# Altium integrated library National Semiconductor OtherParts.IntLib: 205 symbols (part 2 of 7)
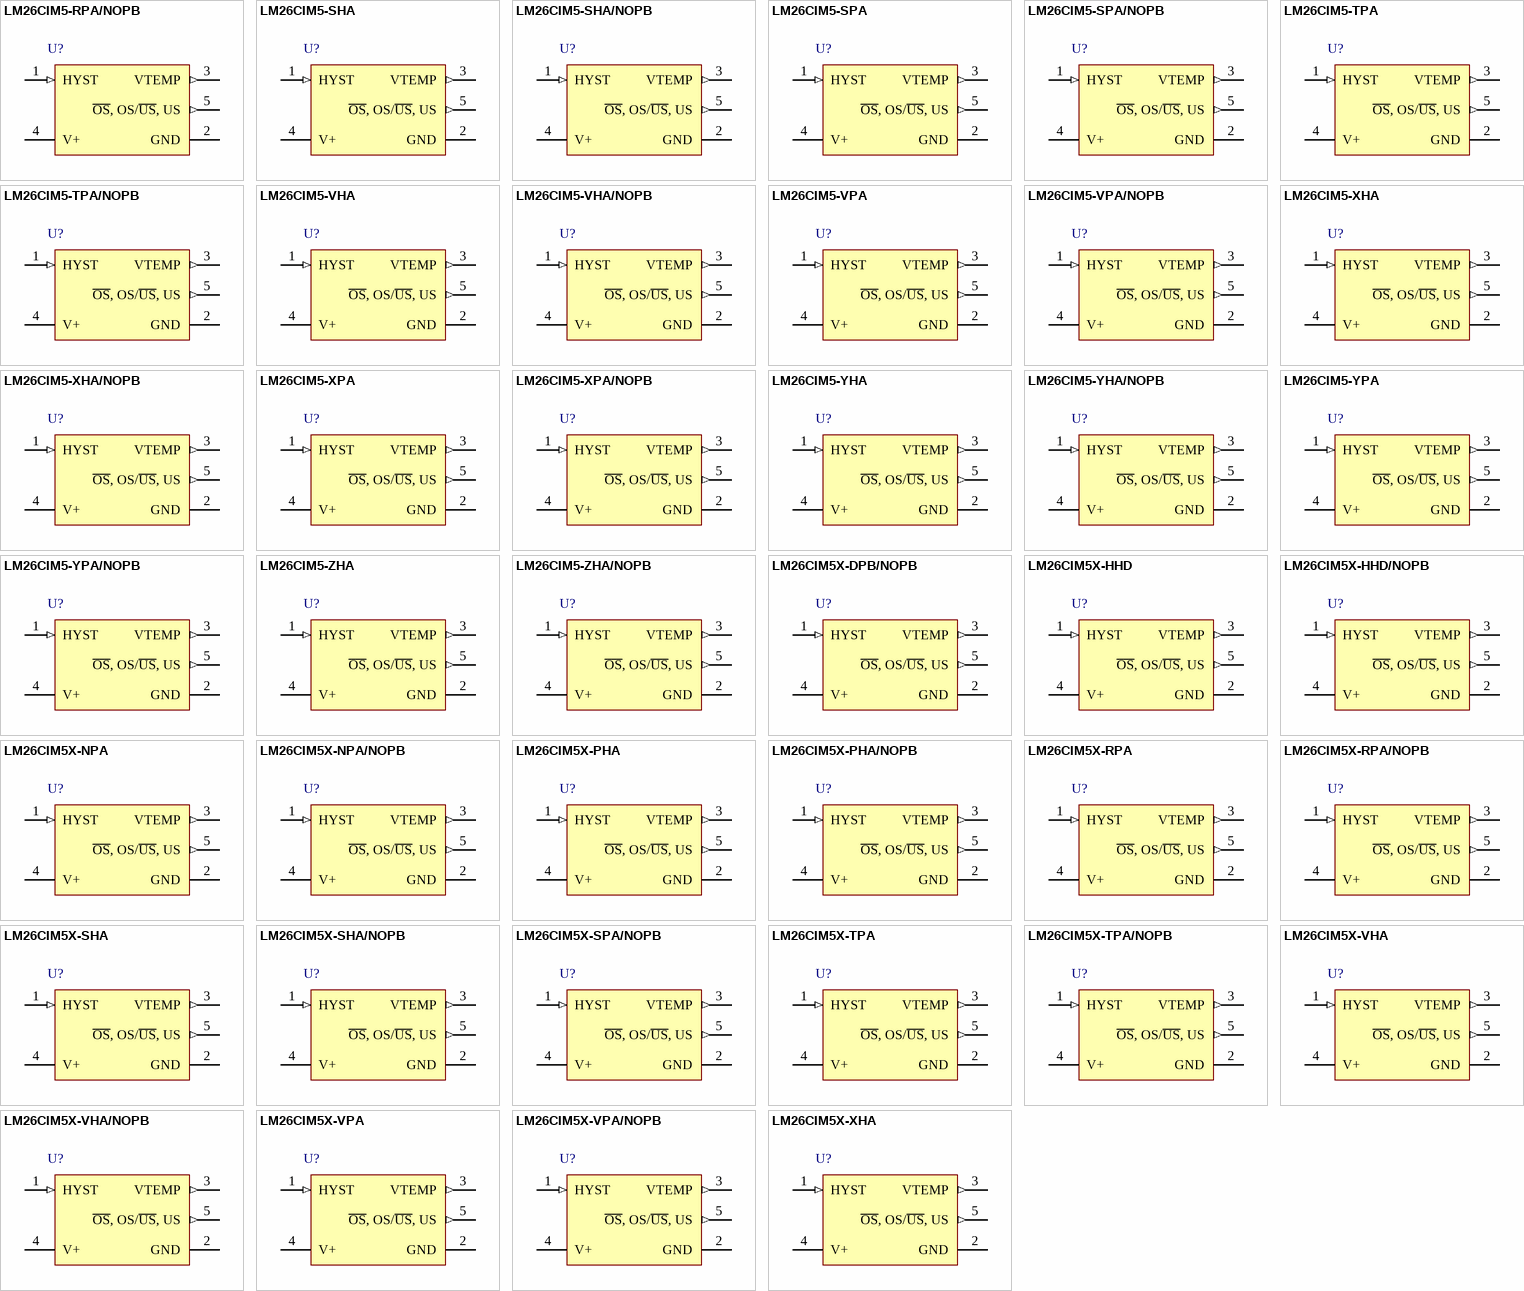
[diagram p13: symbols LM26CIM5-RPA/NOPB to LM26CIM5X-XHA]

## LM26CIM5X-DPB/NOPB
designator U?
±3°C Accurate, Factory Preset Thermostat, 5-pin SOT-23, Pb-Free; PartNumber: LM26CIM5X-DPB/NOPB; Manufacturer: National Semiconductor; PackageTopMarking: TDPB*XTT; PowerWise: Y; CompType: OtherParts; DatasheetVersion: Sep-2009; PackageVersion: revD, Aug-2008; PackageReference: MF05A; PackageDescription: Molded SOT-23, .115 x .063 x .040 in Body, 5 Lead, .0375 in Pitch; RoHS: Y; PinCount: 5; High-Reliability: Y; ComponentLink1Description: Manufacturer URL; ComponentLink1URL: http://www.national.com/; ComponentLink2Description: LM26 Datasheet; ComponentLink2URL: http://www.national.com/ds/LM/LM26.pdf; ComponentLink3Description: LM26 Web Page; ComponentLink3URL: http://www.national.com/pf/LM/LM26.html; ComponentLink4Description: MF05A Package Page; ComponentLink4URL: http://www.national.com/packaging/folders/mf05a.html
footprint MF05A_N (SOT23, 5-Leads, Body 2.9x1.6mm, Pitch 0.95mm, Lead Span 2.8mm, IPC Medium Density)
footprint MF05A_L (SOT23, 5-Leads, Body 2.9x1.6mm, Pitch 0.95mm, Lead Span 2.8mm, IPC High Density)
footprint MF05A_M (SOT23, 5-Leads, Body 2.9x1.6mm, Pitch 0.95mm, Lead Span 2.8mm, IPC Low Density)
pins: 1 HYST (in), 2 GND (power), 3 VTEMP (out), 4 V+ (power), 5 ~{OS}, OS/~{US}, US (out)

## LM26CIM5X-HHD
designator U?
±3°C Accurate, Factory Preset Thermostat, 5-pin SOT-23; PartNumber: LM26CIM5X-HHD; Manufacturer: National Semiconductor; PackageTopMarking: THHD*XTT; PowerWise: Y; CompType: OtherParts; DatasheetVersion: Sep-2009; PackageVersion: revD, Aug-2008; PackageReference: MF05A; PackageDescription: Molded SOT-23, .115 x .063 x .040 in Body, 5 Lead, .0375 in Pitch; RoHS: N; PinCount: 5; High-Reliability: Y; ComponentLink1Description: Manufacturer URL; ComponentLink1URL: http://www.national.com/; ComponentLink2Description: LM26 Datasheet; ComponentLink2URL: http://www.national.com/ds/LM/LM26.pdf; ComponentLink3Description: LM26 Web Page; ComponentLink3URL: http://www.national.com/pf/LM/LM26.html; ComponentLink4Description: MF05A Package Page; ComponentLink4URL: http://www.national.com/packaging/folders/mf05a.html
footprint MF05A_N (SOT23, 5-Leads, Body 2.9x1.6mm, Pitch 0.95mm, Lead Span 2.8mm, IPC Medium Density)
footprint MF05A_L (SOT23, 5-Leads, Body 2.9x1.6mm, Pitch 0.95mm, Lead Span 2.8mm, IPC High Density)
footprint MF05A_M (SOT23, 5-Leads, Body 2.9x1.6mm, Pitch 0.95mm, Lead Span 2.8mm, IPC Low Density)
pins: 1 HYST (in), 2 GND (power), 3 VTEMP (out), 4 V+ (power), 5 ~{OS}, OS/~{US}, US (out)

## LM26CIM5X-HHD/NOPB
designator U?
±3°C Accurate, Factory Preset Thermostat, 5-pin SOT-23, Pb-Free; PartNumber: LM26CIM5X-HHD/NOPB; Manufacturer: National Semiconductor; PackageTopMarking: THHD*XTT; PowerWise: Y; CompType: OtherParts; DatasheetVersion: Sep-2009; PackageVersion: revD, Aug-2008; PackageReference: MF05A; PackageDescription: Molded SOT-23, .115 x .063 x .040 in Body, 5 Lead, .0375 in Pitch; RoHS: Y; PinCount: 5; High-Reliability: Y; ComponentLink1Description: Manufacturer URL; ComponentLink1URL: http://www.national.com/; ComponentLink2Description: LM26 Datasheet; ComponentLink2URL: http://www.national.com/ds/LM/LM26.pdf; ComponentLink3Description: LM26 Web Page; ComponentLink3URL: http://www.national.com/pf/LM/LM26.html; ComponentLink4Description: MF05A Package Page; ComponentLink4URL: http://www.national.com/packaging/folders/mf05a.html
footprint MF05A_N (SOT23, 5-Leads, Body 2.9x1.6mm, Pitch 0.95mm, Lead Span 2.8mm, IPC Medium Density)
footprint MF05A_L (SOT23, 5-Leads, Body 2.9x1.6mm, Pitch 0.95mm, Lead Span 2.8mm, IPC High Density)
footprint MF05A_M (SOT23, 5-Leads, Body 2.9x1.6mm, Pitch 0.95mm, Lead Span 2.8mm, IPC Low Density)
pins: 1 HYST (in), 2 GND (power), 3 VTEMP (out), 4 V+ (power), 5 ~{OS}, OS/~{US}, US (out)

## LM26CIM5X-NPA
designator U?
±3°C Accurate, Factory Preset Thermostat, 5-pin SOT-23; PartNumber: LM26CIM5X-NPA; Manufacturer: National Semiconductor; PackageTopMarking: TNPA*XTT; PowerWise: Y; CompType: OtherParts; DatasheetVersion: Sep-2009; PackageVersion: revD, Aug-2008; PackageReference: MF05A; PackageDescription: Molded SOT-23, .115 x .063 x .040 in Body, 5 Lead, .0375 in Pitch; RoHS: N; PinCount: 5; High-Reliability: Y; ComponentLink1Description: Manufacturer URL; ComponentLink1URL: http://www.national.com/; ComponentLink2Description: LM26 Datasheet; ComponentLink2URL: http://www.national.com/ds/LM/LM26.pdf; ComponentLink3Description: LM26 Web Page; ComponentLink3URL: http://www.national.com/pf/LM/LM26.html; ComponentLink4Description: MF05A Package Page; ComponentLink4URL: http://www.national.com/packaging/folders/mf05a.html
footprint MF05A_N (SOT23, 5-Leads, Body 2.9x1.6mm, Pitch 0.95mm, Lead Span 2.8mm, IPC Medium Density)
footprint MF05A_L (SOT23, 5-Leads, Body 2.9x1.6mm, Pitch 0.95mm, Lead Span 2.8mm, IPC High Density)
footprint MF05A_M (SOT23, 5-Leads, Body 2.9x1.6mm, Pitch 0.95mm, Lead Span 2.8mm, IPC Low Density)
pins: 1 HYST (in), 2 GND (power), 3 VTEMP (out), 4 V+ (power), 5 ~{OS}, OS/~{US}, US (out)

## LM26CIM5X-NPA/NOPB
designator U?
±3°C Accurate, Factory Preset Thermostat, 5-pin SOT-23, Pb-Free; PartNumber: LM26CIM5X-NPA/NOPB; Manufacturer: National Semiconductor; PackageTopMarking: TNPA*XTT; PowerWise: Y; CompType: OtherParts; DatasheetVersion: Sep-2009; PackageVersion: revD, Aug-2008; PackageReference: MF05A; PackageDescription: Molded SOT-23, .115 x .063 x .040 in Body, 5 Lead, .0375 in Pitch; RoHS: Y; PinCount: 5; High-Reliability: Y; ComponentLink1Description: Manufacturer URL; ComponentLink1URL: http://www.national.com/; ComponentLink2Description: LM26 Datasheet; ComponentLink2URL: http://www.national.com/ds/LM/LM26.pdf; ComponentLink3Description: LM26 Web Page; ComponentLink3URL: http://www.national.com/pf/LM/LM26.html; ComponentLink4Description: MF05A Package Page; ComponentLink4URL: http://www.national.com/packaging/folders/mf05a.html
footprint MF05A_N (SOT23, 5-Leads, Body 2.9x1.6mm, Pitch 0.95mm, Lead Span 2.8mm, IPC Medium Density)
footprint MF05A_L (SOT23, 5-Leads, Body 2.9x1.6mm, Pitch 0.95mm, Lead Span 2.8mm, IPC High Density)
footprint MF05A_M (SOT23, 5-Leads, Body 2.9x1.6mm, Pitch 0.95mm, Lead Span 2.8mm, IPC Low Density)
pins: 1 HYST (in), 2 GND (power), 3 VTEMP (out), 4 V+ (power), 5 ~{OS}, OS/~{US}, US (out)

## LM26CIM5X-PHA
designator U?
±3°C Accurate, Factory Preset Thermostat, 5-pin SOT-23; PartNumber: LM26CIM5X-PHA; Manufacturer: National Semiconductor; PackageTopMarking: TPHA*XTT; PowerWise: Y; CompType: OtherParts; DatasheetVersion: Sep-2009; PackageVersion: revD, Aug-2008; PackageReference: MF05A; PackageDescription: Molded SOT-23, .115 x .063 x .040 in Body, 5 Lead, .0375 in Pitch; RoHS: N; PinCount: 5; High-Reliability: Y; ComponentLink1Description: Manufacturer URL; ComponentLink1URL: http://www.national.com/; ComponentLink2Description: LM26 Datasheet; ComponentLink2URL: http://www.national.com/ds/LM/LM26.pdf; ComponentLink3Description: LM26 Web Page; ComponentLink3URL: http://www.national.com/pf/LM/LM26.html; ComponentLink4Description: MF05A Package Page; ComponentLink4URL: http://www.national.com/packaging/folders/mf05a.html
footprint MF05A_N (SOT23, 5-Leads, Body 2.9x1.6mm, Pitch 0.95mm, Lead Span 2.8mm, IPC Medium Density)
footprint MF05A_L (SOT23, 5-Leads, Body 2.9x1.6mm, Pitch 0.95mm, Lead Span 2.8mm, IPC High Density)
footprint MF05A_M (SOT23, 5-Leads, Body 2.9x1.6mm, Pitch 0.95mm, Lead Span 2.8mm, IPC Low Density)
pins: 1 HYST (in), 2 GND (power), 3 VTEMP (out), 4 V+ (power), 5 ~{OS}, OS/~{US}, US (out)

## LM26CIM5X-PHA/NOPB
designator U?
±3°C Accurate, Factory Preset Thermostat, 5-pin SOT-23, Pb-Free; PartNumber: LM26CIM5X-PHA/NOPB; Manufacturer: National Semiconductor; PackageTopMarking: TPHA*XTT; PowerWise: Y; CompType: OtherParts; DatasheetVersion: Sep-2009; PackageVersion: revD, Aug-2008; PackageReference: MF05A; PackageDescription: Molded SOT-23, .115 x .063 x .040 in Body, 5 Lead, .0375 in Pitch; RoHS: Y; PinCount: 5; High-Reliability: Y; ComponentLink1Description: Manufacturer URL; ComponentLink1URL: http://www.national.com/; ComponentLink2Description: LM26 Datasheet; ComponentLink2URL: http://www.national.com/ds/LM/LM26.pdf; ComponentLink3Description: LM26 Web Page; ComponentLink3URL: http://www.national.com/pf/LM/LM26.html; ComponentLink4Description: MF05A Package Page; ComponentLink4URL: http://www.national.com/packaging/folders/mf05a.html
footprint MF05A_N (SOT23, 5-Leads, Body 2.9x1.6mm, Pitch 0.95mm, Lead Span 2.8mm, IPC Medium Density)
footprint MF05A_L (SOT23, 5-Leads, Body 2.9x1.6mm, Pitch 0.95mm, Lead Span 2.8mm, IPC High Density)
footprint MF05A_M (SOT23, 5-Leads, Body 2.9x1.6mm, Pitch 0.95mm, Lead Span 2.8mm, IPC Low Density)
pins: 1 HYST (in), 2 GND (power), 3 VTEMP (out), 4 V+ (power), 5 ~{OS}, OS/~{US}, US (out)

## LM26CIM5X-RPA
designator U?
±3°C Accurate, Factory Preset Thermostat, 5-pin SOT-23; PartNumber: LM26CIM5X-RPA; Manufacturer: National Semiconductor; PackageTopMarking: TRPA*XTT; PowerWise: Y; CompType: OtherParts; DatasheetVersion: Sep-2009; PackageVersion: revD, Aug-2008; PackageReference: MF05A; PackageDescription: Molded SOT-23, .115 x .063 x .040 in Body, 5 Lead, .0375 in Pitch; RoHS: N; PinCount: 5; High-Reliability: Y; ComponentLink1Description: Manufacturer URL; ComponentLink1URL: http://www.national.com/; ComponentLink2Description: LM26 Datasheet; ComponentLink2URL: http://www.national.com/ds/LM/LM26.pdf; ComponentLink3Description: LM26 Web Page; ComponentLink3URL: http://www.national.com/pf/LM/LM26.html; ComponentLink4Description: MF05A Package Page; ComponentLink4URL: http://www.national.com/packaging/folders/mf05a.html
footprint MF05A_N (SOT23, 5-Leads, Body 2.9x1.6mm, Pitch 0.95mm, Lead Span 2.8mm, IPC Medium Density)
footprint MF05A_L (SOT23, 5-Leads, Body 2.9x1.6mm, Pitch 0.95mm, Lead Span 2.8mm, IPC High Density)
footprint MF05A_M (SOT23, 5-Leads, Body 2.9x1.6mm, Pitch 0.95mm, Lead Span 2.8mm, IPC Low Density)
pins: 1 HYST (in), 2 GND (power), 3 VTEMP (out), 4 V+ (power), 5 ~{OS}, OS/~{US}, US (out)

## LM26CIM5X-RPA/NOPB
designator U?
±3°C Accurate, Factory Preset Thermostat, 5-pin SOT-23, Pb-Free; PartNumber: LM26CIM5X-RPA/NOPB; Manufacturer: National Semiconductor; PackageTopMarking: TRPA*XTT; PowerWise: Y; CompType: OtherParts; DatasheetVersion: Sep-2009; PackageVersion: revD, Aug-2008; PackageReference: MF05A; PackageDescription: Molded SOT-23, .115 x .063 x .040 in Body, 5 Lead, .0375 in Pitch; RoHS: Y; PinCount: 5; High-Reliability: Y; ComponentLink1Description: Manufacturer URL; ComponentLink1URL: http://www.national.com/; ComponentLink2Description: LM26 Datasheet; ComponentLink2URL: http://www.national.com/ds/LM/LM26.pdf; ComponentLink3Description: LM26 Web Page; ComponentLink3URL: http://www.national.com/pf/LM/LM26.html; ComponentLink4Description: MF05A Package Page; ComponentLink4URL: http://www.national.com/packaging/folders/mf05a.html
footprint MF05A_N (SOT23, 5-Leads, Body 2.9x1.6mm, Pitch 0.95mm, Lead Span 2.8mm, IPC Medium Density)
footprint MF05A_L (SOT23, 5-Leads, Body 2.9x1.6mm, Pitch 0.95mm, Lead Span 2.8mm, IPC High Density)
footprint MF05A_M (SOT23, 5-Leads, Body 2.9x1.6mm, Pitch 0.95mm, Lead Span 2.8mm, IPC Low Density)
pins: 1 HYST (in), 2 GND (power), 3 VTEMP (out), 4 V+ (power), 5 ~{OS}, OS/~{US}, US (out)

## LM26CIM5X-SHA
designator U?
±3°C Accurate, Factory Preset Thermostat, 5-pin SOT-23; PartNumber: LM26CIM5X-SHA; Manufacturer: National Semiconductor; PackageTopMarking: TSHA*XTT; PowerWise: Y; CompType: OtherParts; DatasheetVersion: Sep-2009; PackageVersion: revD, Aug-2008; PackageReference: MF05A; PackageDescription: Molded SOT-23, .115 x .063 x .040 in Body, 5 Lead, .0375 in Pitch; RoHS: N; PinCount: 5; High-Reliability: Y; ComponentLink1Description: Manufacturer URL; ComponentLink1URL: http://www.national.com/; ComponentLink2Description: LM26 Datasheet; ComponentLink2URL: http://www.national.com/ds/LM/LM26.pdf; ComponentLink3Description: LM26 Web Page; ComponentLink3URL: http://www.national.com/pf/LM/LM26.html; ComponentLink4Description: MF05A Package Page; ComponentLink4URL: http://www.national.com/packaging/folders/mf05a.html
footprint MF05A_N (SOT23, 5-Leads, Body 2.9x1.6mm, Pitch 0.95mm, Lead Span 2.8mm, IPC Medium Density)
footprint MF05A_L (SOT23, 5-Leads, Body 2.9x1.6mm, Pitch 0.95mm, Lead Span 2.8mm, IPC High Density)
footprint MF05A_M (SOT23, 5-Leads, Body 2.9x1.6mm, Pitch 0.95mm, Lead Span 2.8mm, IPC Low Density)
pins: 1 HYST (in), 2 GND (power), 3 VTEMP (out), 4 V+ (power), 5 ~{OS}, OS/~{US}, US (out)

## LM26CIM5X-SHA/NOPB
designator U?
±3°C Accurate, Factory Preset Thermostat, 5-pin SOT-23, Pb-Free; PartNumber: LM26CIM5X-SHA/NOPB; Manufacturer: National Semiconductor; PackageTopMarking: TSHA*XTT; PowerWise: Y; CompType: OtherParts; DatasheetVersion: Sep-2009; PackageVersion: revD, Aug-2008; PackageReference: MF05A; PackageDescription: Molded SOT-23, .115 x .063 x .040 in Body, 5 Lead, .0375 in Pitch; RoHS: Y; PinCount: 5; High-Reliability: Y; ComponentLink1Description: Manufacturer URL; ComponentLink1URL: http://www.national.com/; ComponentLink2Description: LM26 Datasheet; ComponentLink2URL: http://www.national.com/ds/LM/LM26.pdf; ComponentLink3Description: LM26 Web Page; ComponentLink3URL: http://www.national.com/pf/LM/LM26.html; ComponentLink4Description: MF05A Package Page; ComponentLink4URL: http://www.national.com/packaging/folders/mf05a.html
footprint MF05A_N (SOT23, 5-Leads, Body 2.9x1.6mm, Pitch 0.95mm, Lead Span 2.8mm, IPC Medium Density)
footprint MF05A_L (SOT23, 5-Leads, Body 2.9x1.6mm, Pitch 0.95mm, Lead Span 2.8mm, IPC High Density)
footprint MF05A_M (SOT23, 5-Leads, Body 2.9x1.6mm, Pitch 0.95mm, Lead Span 2.8mm, IPC Low Density)
pins: 1 HYST (in), 2 GND (power), 3 VTEMP (out), 4 V+ (power), 5 ~{OS}, OS/~{US}, US (out)

## LM26CIM5X-SPA/NOPB
designator U?
±3°C Accurate, Factory Preset Thermostat, 5-pin SOT-23, Pb-Free; PartNumber: LM26CIM5X-SPA/NOPB; Manufacturer: National Semiconductor; PackageTopMarking: TSPA*XTT; PowerWise: Y; CompType: OtherParts; DatasheetVersion: Sep-2009; PackageVersion: revD, Aug-2008; PackageReference: MF05A; PackageDescription: Molded SOT-23, .115 x .063 x .040 in Body, 5 Lead, .0375 in Pitch; RoHS: Y; PinCount: 5; High-Reliability: Y; ComponentLink1Description: Manufacturer URL; ComponentLink1URL: http://www.national.com/; ComponentLink2Description: LM26 Datasheet; ComponentLink2URL: http://www.national.com/ds/LM/LM26.pdf; ComponentLink3Description: LM26 Web Page; ComponentLink3URL: http://www.national.com/pf/LM/LM26.html; ComponentLink4Description: MF05A Package Page; ComponentLink4URL: http://www.national.com/packaging/folders/mf05a.html
footprint MF05A_N (SOT23, 5-Leads, Body 2.9x1.6mm, Pitch 0.95mm, Lead Span 2.8mm, IPC Medium Density)
footprint MF05A_L (SOT23, 5-Leads, Body 2.9x1.6mm, Pitch 0.95mm, Lead Span 2.8mm, IPC High Density)
footprint MF05A_M (SOT23, 5-Leads, Body 2.9x1.6mm, Pitch 0.95mm, Lead Span 2.8mm, IPC Low Density)
pins: 1 HYST (in), 2 GND (power), 3 VTEMP (out), 4 V+ (power), 5 ~{OS}, OS/~{US}, US (out)

## LM26CIM5X-TPA
designator U?
±3°C Accurate, Factory Preset Thermostat, 5-pin SOT-23; PartNumber: LM26CIM5X-TPA; Manufacturer: National Semiconductor; PackageTopMarking: TTPA*XTT; PowerWise: Y; CompType: OtherParts; DatasheetVersion: Sep-2009; PackageVersion: revD, Aug-2008; PackageReference: MF05A; PackageDescription: Molded SOT-23, .115 x .063 x .040 in Body, 5 Lead, .0375 in Pitch; RoHS: N; PinCount: 5; High-Reliability: Y; ComponentLink1Description: Manufacturer URL; ComponentLink1URL: http://www.national.com/; ComponentLink2Description: LM26 Datasheet; ComponentLink2URL: http://www.national.com/ds/LM/LM26.pdf; ComponentLink3Description: LM26 Web Page; ComponentLink3URL: http://www.national.com/pf/LM/LM26.html; ComponentLink4Description: MF05A Package Page; ComponentLink4URL: http://www.national.com/packaging/folders/mf05a.html
footprint MF05A_N (SOT23, 5-Leads, Body 2.9x1.6mm, Pitch 0.95mm, Lead Span 2.8mm, IPC Medium Density)
footprint MF05A_L (SOT23, 5-Leads, Body 2.9x1.6mm, Pitch 0.95mm, Lead Span 2.8mm, IPC High Density)
footprint MF05A_M (SOT23, 5-Leads, Body 2.9x1.6mm, Pitch 0.95mm, Lead Span 2.8mm, IPC Low Density)
pins: 1 HYST (in), 2 GND (power), 3 VTEMP (out), 4 V+ (power), 5 ~{OS}, OS/~{US}, US (out)

## LM26CIM5X-TPA/NOPB
designator U?
±3°C Accurate, Factory Preset Thermostat, 5-pin SOT-23, Pb-Free; PartNumber: LM26CIM5X-TPA/NOPB; Manufacturer: National Semiconductor; PackageTopMarking: TTPA*XTT; PowerWise: Y; CompType: OtherParts; DatasheetVersion: Sep-2009; PackageVersion: revD, Aug-2008; PackageReference: MF05A; PackageDescription: Molded SOT-23, .115 x .063 x .040 in Body, 5 Lead, .0375 in Pitch; RoHS: Y; PinCount: 5; High-Reliability: Y; ComponentLink1Description: Manufacturer URL; ComponentLink1URL: http://www.national.com/; ComponentLink2Description: LM26 Datasheet; ComponentLink2URL: http://www.national.com/ds/LM/LM26.pdf; ComponentLink3Description: LM26 Web Page; ComponentLink3URL: http://www.national.com/pf/LM/LM26.html; ComponentLink4Description: MF05A Package Page; ComponentLink4URL: http://www.national.com/packaging/folders/mf05a.html
footprint MF05A_N (SOT23, 5-Leads, Body 2.9x1.6mm, Pitch 0.95mm, Lead Span 2.8mm, IPC Medium Density)
footprint MF05A_L (SOT23, 5-Leads, Body 2.9x1.6mm, Pitch 0.95mm, Lead Span 2.8mm, IPC High Density)
footprint MF05A_M (SOT23, 5-Leads, Body 2.9x1.6mm, Pitch 0.95mm, Lead Span 2.8mm, IPC Low Density)
pins: 1 HYST (in), 2 GND (power), 3 VTEMP (out), 4 V+ (power), 5 ~{OS}, OS/~{US}, US (out)

## LM26CIM5X-VHA
designator U?
±3°C Accurate, Factory Preset Thermostat, 5-pin SOT-23; PartNumber: LM26CIM5X-VHA; Manufacturer: National Semiconductor; PackageTopMarking: TVHA*XTT; PowerWise: Y; CompType: OtherParts; DatasheetVersion: Sep-2009; PackageVersion: revD, Aug-2008; PackageReference: MF05A; PackageDescription: Molded SOT-23, .115 x .063 x .040 in Body, 5 Lead, .0375 in Pitch; RoHS: N; PinCount: 5; High-Reliability: Y; ComponentLink1Description: Manufacturer URL; ComponentLink1URL: http://www.national.com/; ComponentLink2Description: LM26 Datasheet; ComponentLink2URL: http://www.national.com/ds/LM/LM26.pdf; ComponentLink3Description: LM26 Web Page; ComponentLink3URL: http://www.national.com/pf/LM/LM26.html; ComponentLink4Description: MF05A Package Page; ComponentLink4URL: http://www.national.com/packaging/folders/mf05a.html
footprint MF05A_N (SOT23, 5-Leads, Body 2.9x1.6mm, Pitch 0.95mm, Lead Span 2.8mm, IPC Medium Density)
footprint MF05A_L (SOT23, 5-Leads, Body 2.9x1.6mm, Pitch 0.95mm, Lead Span 2.8mm, IPC High Density)
footprint MF05A_M (SOT23, 5-Leads, Body 2.9x1.6mm, Pitch 0.95mm, Lead Span 2.8mm, IPC Low Density)
pins: 1 HYST (in), 2 GND (power), 3 VTEMP (out), 4 V+ (power), 5 ~{OS}, OS/~{US}, US (out)

## LM26CIM5X-VHA/NOPB
designator U?
±3°C Accurate, Factory Preset Thermostat, 5-pin SOT-23, Pb-Free; PartNumber: LM26CIM5X-VHA/NOPB; Manufacturer: National Semiconductor; PackageTopMarking: TVHA*XTT; PowerWise: Y; CompType: OtherParts; DatasheetVersion: Sep-2009; PackageVersion: revD, Aug-2008; PackageReference: MF05A; PackageDescription: Molded SOT-23, .115 x .063 x .040 in Body, 5 Lead, .0375 in Pitch; RoHS: Y; PinCount: 5; High-Reliability: Y; ComponentLink1Description: Manufacturer URL; ComponentLink1URL: http://www.national.com/; ComponentLink2Description: LM26 Datasheet; ComponentLink2URL: http://www.national.com/ds/LM/LM26.pdf; ComponentLink3Description: LM26 Web Page; ComponentLink3URL: http://www.national.com/pf/LM/LM26.html; ComponentLink4Description: MF05A Package Page; ComponentLink4URL: http://www.national.com/packaging/folders/mf05a.html
footprint MF05A_N (SOT23, 5-Leads, Body 2.9x1.6mm, Pitch 0.95mm, Lead Span 2.8mm, IPC Medium Density)
footprint MF05A_L (SOT23, 5-Leads, Body 2.9x1.6mm, Pitch 0.95mm, Lead Span 2.8mm, IPC High Density)
footprint MF05A_M (SOT23, 5-Leads, Body 2.9x1.6mm, Pitch 0.95mm, Lead Span 2.8mm, IPC Low Density)
pins: 1 HYST (in), 2 GND (power), 3 VTEMP (out), 4 V+ (power), 5 ~{OS}, OS/~{US}, US (out)

## LM26CIM5X-VPA
designator U?
±3°C Accurate, Factory Preset Thermostat, 5-pin SOT-23; PartNumber: LM26CIM5X-VPA; Manufacturer: National Semiconductor; PackageTopMarking: TVPA*XTT; PowerWise: Y; CompType: OtherParts; DatasheetVersion: Sep-2009; PackageVersion: revD, Aug-2008; PackageReference: MF05A; PackageDescription: Molded SOT-23, .115 x .063 x .040 in Body, 5 Lead, .0375 in Pitch; RoHS: N; PinCount: 5; High-Reliability: Y; ComponentLink1Description: Manufacturer URL; ComponentLink1URL: http://www.national.com/; ComponentLink2Description: LM26 Datasheet; ComponentLink2URL: http://www.national.com/ds/LM/LM26.pdf; ComponentLink3Description: LM26 Web Page; ComponentLink3URL: http://www.national.com/pf/LM/LM26.html; ComponentLink4Description: MF05A Package Page; ComponentLink4URL: http://www.national.com/packaging/folders/mf05a.html
footprint MF05A_N (SOT23, 5-Leads, Body 2.9x1.6mm, Pitch 0.95mm, Lead Span 2.8mm, IPC Medium Density)
footprint MF05A_L (SOT23, 5-Leads, Body 2.9x1.6mm, Pitch 0.95mm, Lead Span 2.8mm, IPC High Density)
footprint MF05A_M (SOT23, 5-Leads, Body 2.9x1.6mm, Pitch 0.95mm, Lead Span 2.8mm, IPC Low Density)
pins: 1 HYST (in), 2 GND (power), 3 VTEMP (out), 4 V+ (power), 5 ~{OS}, OS/~{US}, US (out)

## LM26CIM5X-VPA/NOPB
designator U?
±3°C Accurate, Factory Preset Thermostat, 5-pin SOT-23, Pb-Free; PartNumber: LM26CIM5X-VPA/NOPB; Manufacturer: National Semiconductor; PackageTopMarking: TVPA*XTT; PowerWise: Y; CompType: OtherParts; DatasheetVersion: Sep-2009; PackageVersion: revD, Aug-2008; PackageReference: MF05A; PackageDescription: Molded SOT-23, .115 x .063 x .040 in Body, 5 Lead, .0375 in Pitch; RoHS: Y; PinCount: 5; High-Reliability: Y; ComponentLink1Description: Manufacturer URL; ComponentLink1URL: http://www.national.com/; ComponentLink2Description: LM26 Datasheet; ComponentLink2URL: http://www.national.com/ds/LM/LM26.pdf; ComponentLink3Description: LM26 Web Page; ComponentLink3URL: http://www.national.com/pf/LM/LM26.html; ComponentLink4Description: MF05A Package Page; ComponentLink4URL: http://www.national.com/packaging/folders/mf05a.html
footprint MF05A_N (SOT23, 5-Leads, Body 2.9x1.6mm, Pitch 0.95mm, Lead Span 2.8mm, IPC Medium Density)
footprint MF05A_L (SOT23, 5-Leads, Body 2.9x1.6mm, Pitch 0.95mm, Lead Span 2.8mm, IPC High Density)
footprint MF05A_M (SOT23, 5-Leads, Body 2.9x1.6mm, Pitch 0.95mm, Lead Span 2.8mm, IPC Low Density)
pins: 1 HYST (in), 2 GND (power), 3 VTEMP (out), 4 V+ (power), 5 ~{OS}, OS/~{US}, US (out)

## LM26CIM5X-XHA
designator U?
±3°C Accurate, Factory Preset Thermostat, 5-pin SOT-23; PartNumber: LM26CIM5X-XHA; Manufacturer: National Semiconductor; PackageTopMarking: TXHA*XTT; PowerWise: Y; CompType: OtherParts; DatasheetVersion: Sep-2009; PackageVersion: revD, Aug-2008; PackageReference: MF05A; PackageDescription: Molded SOT-23, .115 x .063 x .040 in Body, 5 Lead, .0375 in Pitch; RoHS: N; PinCount: 5; High-Reliability: Y; ComponentLink1Description: Manufacturer URL; ComponentLink1URL: http://www.national.com/; ComponentLink2Description: LM26 Datasheet; ComponentLink2URL: http://www.national.com/ds/LM/LM26.pdf; ComponentLink3Description: LM26 Web Page; ComponentLink3URL: http://www.national.com/pf/LM/LM26.html; ComponentLink4Description: MF05A Package Page; ComponentLink4URL: http://www.national.com/packaging/folders/mf05a.html
footprint MF05A_N (SOT23, 5-Leads, Body 2.9x1.6mm, Pitch 0.95mm, Lead Span 2.8mm, IPC Medium Density)
footprint MF05A_L (SOT23, 5-Leads, Body 2.9x1.6mm, Pitch 0.95mm, Lead Span 2.8mm, IPC High Density)
footprint MF05A_M (SOT23, 5-Leads, Body 2.9x1.6mm, Pitch 0.95mm, Lead Span 2.8mm, IPC Low Density)
pins: 1 HYST (in), 2 GND (power), 3 VTEMP (out), 4 V+ (power), 5 ~{OS}, OS/~{US}, US (out)

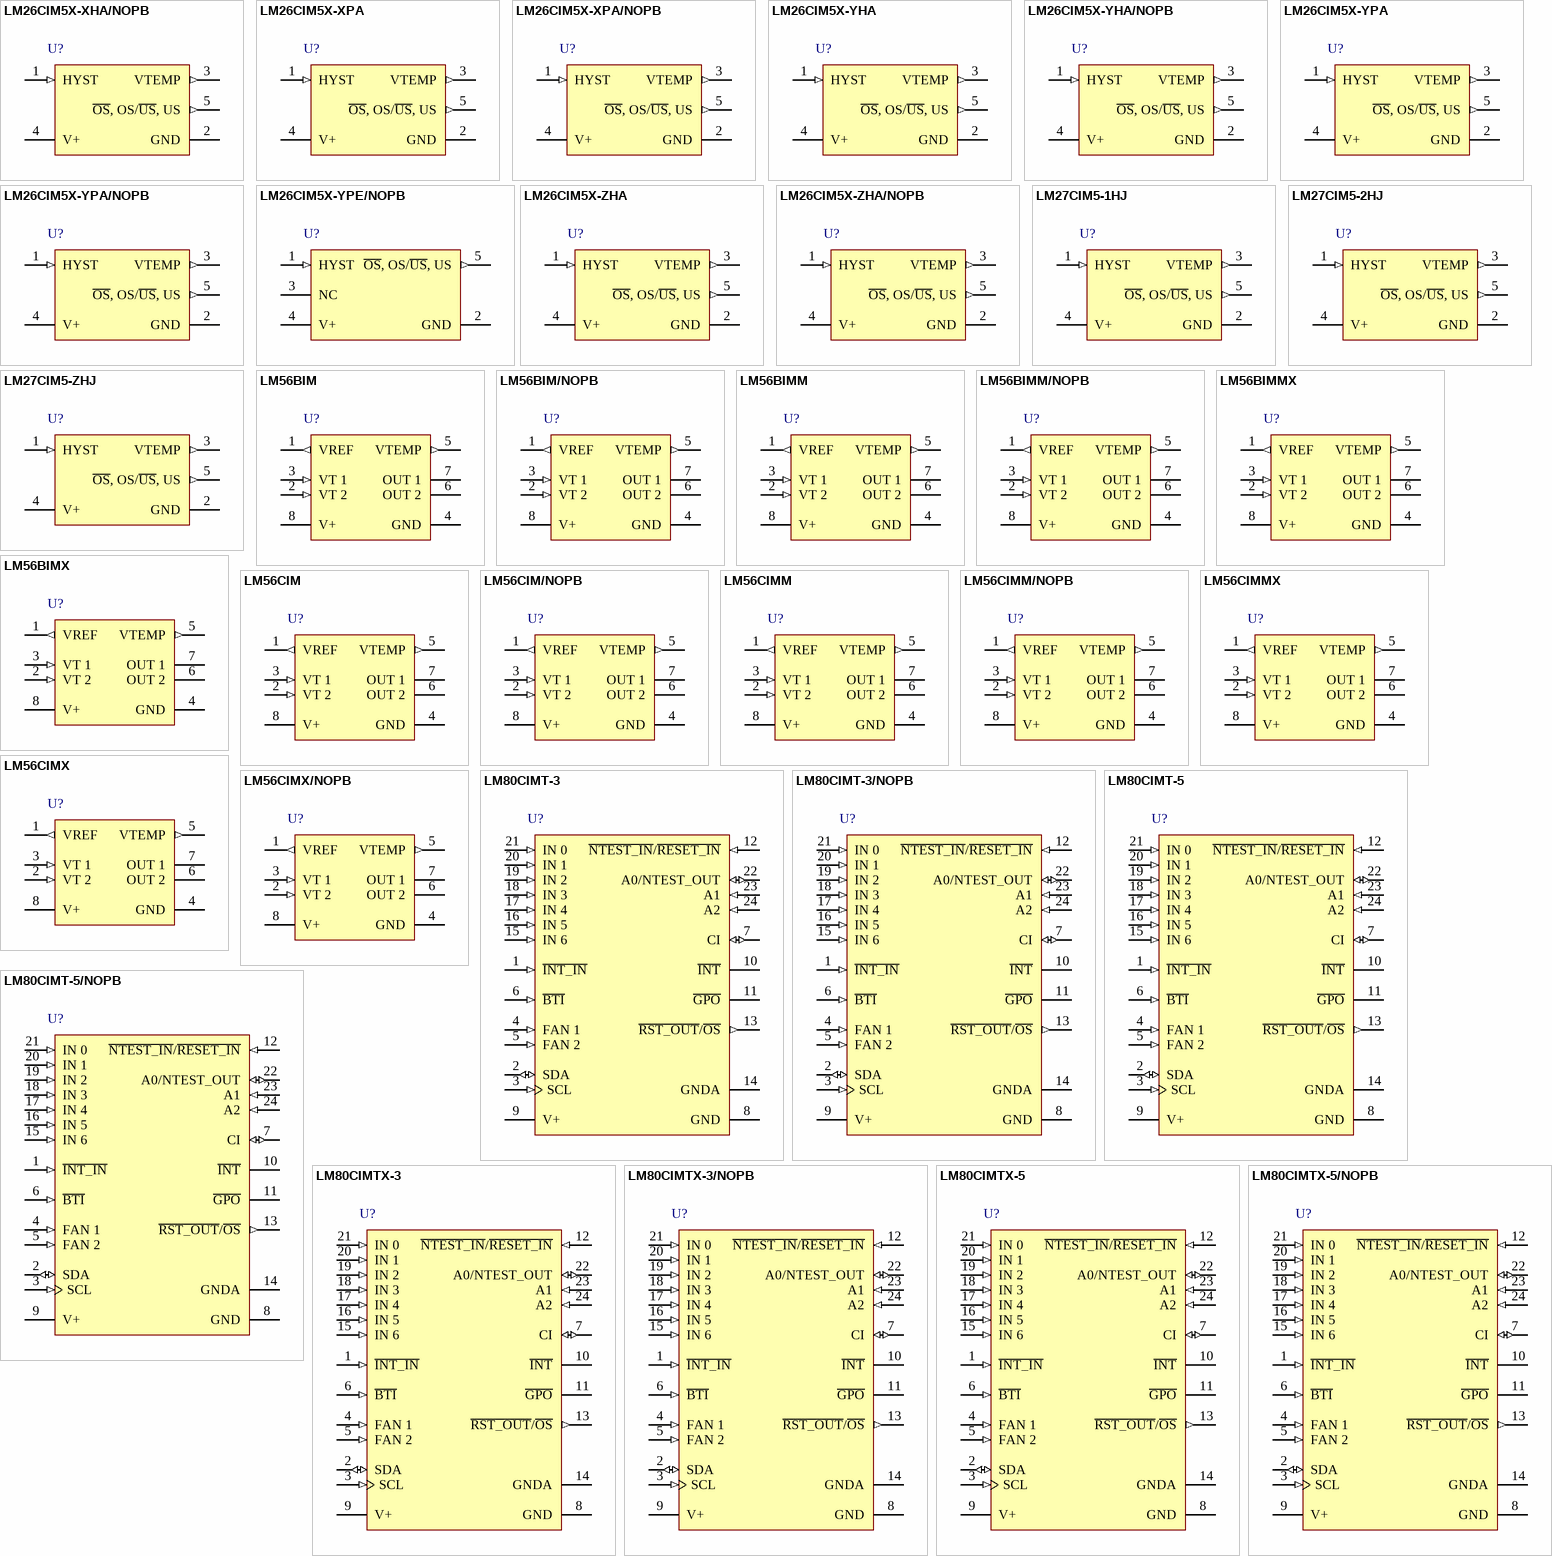
[diagram p2: symbols LM26CIM5X-XHA/NOPB to LM80CIMTX-5/NOPB]

## LM26CIM5X-XHA/NOPB
designator U?
±3°C Accurate, Factory Preset Thermostat, 5-pin SOT-23, Pb-Free; PartNumber: LM26CIM5X-XHA/NOPB; Manufacturer: National Semiconductor; PackageTopMarking: TXHA*XTT; PowerWise: Y; CompType: OtherParts; DatasheetVersion: Sep-2009; PackageVersion: revD, Aug-2008; PackageReference: MF05A; PackageDescription: Molded SOT-23, .115 x .063 x .040 in Body, 5 Lead, .0375 in Pitch; RoHS: Y; PinCount: 5; High-Reliability: Y; ComponentLink1Description: Manufacturer URL; ComponentLink1URL: http://www.national.com/; ComponentLink2Description: LM26 Datasheet; ComponentLink2URL: http://www.national.com/ds/LM/LM26.pdf; ComponentLink3Description: LM26 Web Page; ComponentLink3URL: http://www.national.com/pf/LM/LM26.html; ComponentLink4Description: MF05A Package Page; ComponentLink4URL: http://www.national.com/packaging/folders/mf05a.html
footprint MF05A_N (SOT23, 5-Leads, Body 2.9x1.6mm, Pitch 0.95mm, Lead Span 2.8mm, IPC Medium Density)
footprint MF05A_L (SOT23, 5-Leads, Body 2.9x1.6mm, Pitch 0.95mm, Lead Span 2.8mm, IPC High Density)
footprint MF05A_M (SOT23, 5-Leads, Body 2.9x1.6mm, Pitch 0.95mm, Lead Span 2.8mm, IPC Low Density)
pins: 1 HYST (in), 2 GND (power), 3 VTEMP (out), 4 V+ (power), 5 ~{OS}, OS/~{US}, US (out)

## LM26CIM5X-XPA
designator U?
±3°C Accurate, Factory Preset Thermostat, 5-pin SOT-23; PartNumber: LM26CIM5X-XPA; Manufacturer: National Semiconductor; PackageTopMarking: TXPA*XTT; PowerWise: Y; CompType: OtherParts; DatasheetVersion: Sep-2009; PackageVersion: revD, Aug-2008; PackageReference: MF05A; PackageDescription: Molded SOT-23, .115 x .063 x .040 in Body, 5 Lead, .0375 in Pitch; RoHS: N; PinCount: 5; High-Reliability: Y; ComponentLink1Description: Manufacturer URL; ComponentLink1URL: http://www.national.com/; ComponentLink2Description: LM26 Datasheet; ComponentLink2URL: http://www.national.com/ds/LM/LM26.pdf; ComponentLink3Description: LM26 Web Page; ComponentLink3URL: http://www.national.com/pf/LM/LM26.html; ComponentLink4Description: MF05A Package Page; ComponentLink4URL: http://www.national.com/packaging/folders/mf05a.html
footprint MF05A_N (SOT23, 5-Leads, Body 2.9x1.6mm, Pitch 0.95mm, Lead Span 2.8mm, IPC Medium Density)
footprint MF05A_L (SOT23, 5-Leads, Body 2.9x1.6mm, Pitch 0.95mm, Lead Span 2.8mm, IPC High Density)
footprint MF05A_M (SOT23, 5-Leads, Body 2.9x1.6mm, Pitch 0.95mm, Lead Span 2.8mm, IPC Low Density)
pins: 1 HYST (in), 2 GND (power), 3 VTEMP (out), 4 V+ (power), 5 ~{OS}, OS/~{US}, US (out)

## LM26CIM5X-XPA/NOPB
designator U?
±3°C Accurate, Factory Preset Thermostat, 5-pin SOT-23, Pb-Free; PartNumber: LM26CIM5X-XPA/NOPB; Manufacturer: National Semiconductor; PackageTopMarking: TXPA*XTT; PowerWise: Y; CompType: OtherParts; DatasheetVersion: Sep-2009; PackageVersion: revD, Aug-2008; PackageReference: MF05A; PackageDescription: Molded SOT-23, .115 x .063 x .040 in Body, 5 Lead, .0375 in Pitch; RoHS: Y; PinCount: 5; High-Reliability: Y; ComponentLink1Description: Manufacturer URL; ComponentLink1URL: http://www.national.com/; ComponentLink2Description: LM26 Datasheet; ComponentLink2URL: http://www.national.com/ds/LM/LM26.pdf; ComponentLink3Description: LM26 Web Page; ComponentLink3URL: http://www.national.com/pf/LM/LM26.html; ComponentLink4Description: MF05A Package Page; ComponentLink4URL: http://www.national.com/packaging/folders/mf05a.html
footprint MF05A_N (SOT23, 5-Leads, Body 2.9x1.6mm, Pitch 0.95mm, Lead Span 2.8mm, IPC Medium Density)
footprint MF05A_L (SOT23, 5-Leads, Body 2.9x1.6mm, Pitch 0.95mm, Lead Span 2.8mm, IPC High Density)
footprint MF05A_M (SOT23, 5-Leads, Body 2.9x1.6mm, Pitch 0.95mm, Lead Span 2.8mm, IPC Low Density)
pins: 1 HYST (in), 2 GND (power), 3 VTEMP (out), 4 V+ (power), 5 ~{OS}, OS/~{US}, US (out)

## LM26CIM5X-YHA
designator U?
±3°C Accurate, Factory Preset Thermostat, 5-pin SOT-23; PartNumber: LM26CIM5X-YHA; Manufacturer: National Semiconductor; PackageTopMarking: TYHA*XTT; PowerWise: Y; CompType: OtherParts; DatasheetVersion: Sep-2009; PackageVersion: revD, Aug-2008; PackageReference: MF05A; PackageDescription: Molded SOT-23, .115 x .063 x .040 in Body, 5 Lead, .0375 in Pitch; RoHS: N; PinCount: 5; High-Reliability: Y; ComponentLink1Description: Manufacturer URL; ComponentLink1URL: http://www.national.com/; ComponentLink2Description: LM26 Datasheet; ComponentLink2URL: http://www.national.com/ds/LM/LM26.pdf; ComponentLink3Description: LM26 Web Page; ComponentLink3URL: http://www.national.com/pf/LM/LM26.html; ComponentLink4Description: MF05A Package Page; ComponentLink4URL: http://www.national.com/packaging/folders/mf05a.html
footprint MF05A_N (SOT23, 5-Leads, Body 2.9x1.6mm, Pitch 0.95mm, Lead Span 2.8mm, IPC Medium Density)
footprint MF05A_L (SOT23, 5-Leads, Body 2.9x1.6mm, Pitch 0.95mm, Lead Span 2.8mm, IPC High Density)
footprint MF05A_M (SOT23, 5-Leads, Body 2.9x1.6mm, Pitch 0.95mm, Lead Span 2.8mm, IPC Low Density)
pins: 1 HYST (in), 2 GND (power), 3 VTEMP (out), 4 V+ (power), 5 ~{OS}, OS/~{US}, US (out)

## LM26CIM5X-YHA/NOPB
designator U?
±3°C Accurate, Factory Preset Thermostat, 5-pin SOT-23, Pb-Free; PartNumber: LM26CIM5X-YHA/NOPB; Manufacturer: National Semiconductor; PackageTopMarking: TYHA*XTT; PowerWise: Y; CompType: OtherParts; DatasheetVersion: Sep-2009; PackageVersion: revD, Aug-2008; PackageReference: MF05A; PackageDescription: Molded SOT-23, .115 x .063 x .040 in Body, 5 Lead, .0375 in Pitch; RoHS: Y; PinCount: 5; High-Reliability: Y; ComponentLink1Description: Manufacturer URL; ComponentLink1URL: http://www.national.com/; ComponentLink2Description: LM26 Datasheet; ComponentLink2URL: http://www.national.com/ds/LM/LM26.pdf; ComponentLink3Description: LM26 Web Page; ComponentLink3URL: http://www.national.com/pf/LM/LM26.html; ComponentLink4Description: MF05A Package Page; ComponentLink4URL: http://www.national.com/packaging/folders/mf05a.html
footprint MF05A_N (SOT23, 5-Leads, Body 2.9x1.6mm, Pitch 0.95mm, Lead Span 2.8mm, IPC Medium Density)
footprint MF05A_L (SOT23, 5-Leads, Body 2.9x1.6mm, Pitch 0.95mm, Lead Span 2.8mm, IPC High Density)
footprint MF05A_M (SOT23, 5-Leads, Body 2.9x1.6mm, Pitch 0.95mm, Lead Span 2.8mm, IPC Low Density)
pins: 1 HYST (in), 2 GND (power), 3 VTEMP (out), 4 V+ (power), 5 ~{OS}, OS/~{US}, US (out)

## LM26CIM5X-YPA
designator U?
±3°C Accurate, Factory Preset Thermostat, 5-pin SOT-23; PartNumber: LM26CIM5X-YPA; Manufacturer: National Semiconductor; PackageTopMarking: TYPA*XTT; PowerWise: Y; CompType: OtherParts; DatasheetVersion: Sep-2009; PackageVersion: revD, Aug-2008; PackageReference: MF05A; PackageDescription: Molded SOT-23, .115 x .063 x .040 in Body, 5 Lead, .0375 in Pitch; RoHS: N; PinCount: 5; High-Reliability: Y; ComponentLink1Description: Manufacturer URL; ComponentLink1URL: http://www.national.com/; ComponentLink2Description: LM26 Datasheet; ComponentLink2URL: http://www.national.com/ds/LM/LM26.pdf; ComponentLink3Description: LM26 Web Page; ComponentLink3URL: http://www.national.com/pf/LM/LM26.html; ComponentLink4Description: MF05A Package Page; ComponentLink4URL: http://www.national.com/packaging/folders/mf05a.html
footprint MF05A_N (SOT23, 5-Leads, Body 2.9x1.6mm, Pitch 0.95mm, Lead Span 2.8mm, IPC Medium Density)
footprint MF05A_L (SOT23, 5-Leads, Body 2.9x1.6mm, Pitch 0.95mm, Lead Span 2.8mm, IPC High Density)
footprint MF05A_M (SOT23, 5-Leads, Body 2.9x1.6mm, Pitch 0.95mm, Lead Span 2.8mm, IPC Low Density)
pins: 1 HYST (in), 2 GND (power), 3 VTEMP (out), 4 V+ (power), 5 ~{OS}, OS/~{US}, US (out)

## LM26CIM5X-YPA/NOPB
designator U?
±3°C Accurate, Factory Preset Thermostat, 5-pin SOT-23, Pb-Free; PartNumber: LM26CIM5X-YPA/NOPB; Manufacturer: National Semiconductor; PackageTopMarking: TYPA*XTT; PowerWise: Y; CompType: OtherParts; DatasheetVersion: Sep-2009; PackageVersion: revD, Aug-2008; PackageReference: MF05A; PackageDescription: Molded SOT-23, .115 x .063 x .040 in Body, 5 Lead, .0375 in Pitch; RoHS: Y; PinCount: 5; High-Reliability: Y; ComponentLink1Description: Manufacturer URL; ComponentLink1URL: http://www.national.com/; ComponentLink2Description: LM26 Datasheet; ComponentLink2URL: http://www.national.com/ds/LM/LM26.pdf; ComponentLink3Description: LM26 Web Page; ComponentLink3URL: http://www.national.com/pf/LM/LM26.html; ComponentLink4Description: MF05A Package Page; ComponentLink4URL: http://www.national.com/packaging/folders/mf05a.html
footprint MF05A_N (SOT23, 5-Leads, Body 2.9x1.6mm, Pitch 0.95mm, Lead Span 2.8mm, IPC Medium Density)
footprint MF05A_L (SOT23, 5-Leads, Body 2.9x1.6mm, Pitch 0.95mm, Lead Span 2.8mm, IPC High Density)
footprint MF05A_M (SOT23, 5-Leads, Body 2.9x1.6mm, Pitch 0.95mm, Lead Span 2.8mm, IPC Low Density)
pins: 1 HYST (in), 2 GND (power), 3 VTEMP (out), 4 V+ (power), 5 ~{OS}, OS/~{US}, US (out)

## LM26CIM5X-YPE/NOPB
designator U?
±3°C Accurate, Factory Preset Thermostat (LM26 without Vtemp), 5-pin SOT-23, Pb-Free; PartNumber: LM26CIM5X-YPE/NOPB; Manufacturer: National Semiconductor; PackageTopMarking: TYPE*XTT; PowerWise: Y; CompType: OtherParts; DatasheetVersion: Aug-2008; PackageVersion: revD, Aug-2008; PackageReference: MF05A; PackageDescription: Molded SOT-23, .115 x .063 x .040 in Body, 5 Lead, .0375 in Pitch; RoHS: Y; PinCount: 5; High-Reliability: Y; ComponentLink1Description: Manufacturer URL; ComponentLink1URL: http://www.national.com/; ComponentLink2Description: LM26 Datasheet; ComponentLink2URL: http://www.national.com/ds/LM/LM26NV.pdf; ComponentLink3Description: LM26 Web Page; ComponentLink3URL: http://www.national.com/pf/LM/LM26.html; ComponentLink4Description: MF05A Package Page; ComponentLink4URL: http://www.national.com/packaging/folders/mf05a.html
footprint MF05A_N (SOT23, 5-Leads, Body 2.9x1.6mm, Pitch 0.95mm, Lead Span 2.8mm, IPC Medium Density)
footprint MF05A_L (SOT23, 5-Leads, Body 2.9x1.6mm, Pitch 0.95mm, Lead Span 2.8mm, IPC High Density)
footprint MF05A_M (SOT23, 5-Leads, Body 2.9x1.6mm, Pitch 0.95mm, Lead Span 2.8mm, IPC Low Density)
pins: 1 HYST (in), 2 GND (power), 3 NC, 4 V+ (power), 5 ~{OS}, OS/~{US}, US (out)

## LM26CIM5X-ZHA
designator U?
±3°C Accurate, Factory Preset Thermostat, 5-pin SOT-23; PartNumber: LM26CIM5X-ZHA; Manufacturer: National Semiconductor; PackageTopMarking: TZHA*XTT; PowerWise: Y; CompType: OtherParts; DatasheetVersion: Sep-2009; PackageVersion: revD, Aug-2008; PackageReference: MF05A; PackageDescription: Molded SOT-23, .115 x .063 x .040 in Body, 5 Lead, .0375 in Pitch; RoHS: N; PinCount: 5; High-Reliability: Y; ComponentLink1Description: Manufacturer URL; ComponentLink1URL: http://www.national.com/; ComponentLink2Description: LM26 Datasheet; ComponentLink2URL: http://www.national.com/ds/LM/LM26.pdf; ComponentLink3Description: LM26 Web Page; ComponentLink3URL: http://www.national.com/pf/LM/LM26.html; ComponentLink4Description: MF05A Package Page; ComponentLink4URL: http://www.national.com/packaging/folders/mf05a.html
footprint MF05A_N (SOT23, 5-Leads, Body 2.9x1.6mm, Pitch 0.95mm, Lead Span 2.8mm, IPC Medium Density)
footprint MF05A_L (SOT23, 5-Leads, Body 2.9x1.6mm, Pitch 0.95mm, Lead Span 2.8mm, IPC High Density)
footprint MF05A_M (SOT23, 5-Leads, Body 2.9x1.6mm, Pitch 0.95mm, Lead Span 2.8mm, IPC Low Density)
pins: 1 HYST (in), 2 GND (power), 3 VTEMP (out), 4 V+ (power), 5 ~{OS}, OS/~{US}, US (out)

## LM26CIM5X-ZHA/NOPB
designator U?
±3°C Accurate, Factory Preset Thermostat, 5-pin SOT-23, Pb-Free; PartNumber: LM26CIM5X-ZHA/NOPB; Manufacturer: National Semiconductor; PackageTopMarking: TZHA*XTT; PowerWise: Y; CompType: OtherParts; DatasheetVersion: Sep-2009; PackageVersion: revD, Aug-2008; PackageReference: MF05A; PackageDescription: Molded SOT-23, .115 x .063 x .040 in Body, 5 Lead, .0375 in Pitch; RoHS: Y; PinCount: 5; High-Reliability: Y; ComponentLink1Description: Manufacturer URL; ComponentLink1URL: http://www.national.com/; ComponentLink2Description: LM26 Datasheet; ComponentLink2URL: http://www.national.com/ds/LM/LM26.pdf; ComponentLink3Description: LM26 Web Page; ComponentLink3URL: http://www.national.com/pf/LM/LM26.html; ComponentLink4Description: MF05A Package Page; ComponentLink4URL: http://www.national.com/packaging/folders/mf05a.html
footprint MF05A_N (SOT23, 5-Leads, Body 2.9x1.6mm, Pitch 0.95mm, Lead Span 2.8mm, IPC Medium Density)
footprint MF05A_L (SOT23, 5-Leads, Body 2.9x1.6mm, Pitch 0.95mm, Lead Span 2.8mm, IPC High Density)
footprint MF05A_M (SOT23, 5-Leads, Body 2.9x1.6mm, Pitch 0.95mm, Lead Span 2.8mm, IPC Low Density)
pins: 1 HYST (in), 2 GND (power), 3 VTEMP (out), 4 V+ (power), 5 ~{OS}, OS/~{US}, US (out)

## LM27CIM5-1HJ
designator U?
±3°C Accurate, 120°C-150°C Factory Preset Thermostat, 5-pin SOT-23; PartNumber: LM27CIM5-1HJ; Manufacturer: National Semiconductor; PackageTopMarking: T1HJ*XTT; PowerWise: Y; CompType: OtherParts; DatasheetVersion: Sep-2006; PackageVersion: revD, Aug-2008; PackageReference: MF05A; PackageDescription: Molded SOT-23, .115 x .063 x .040 in Body, 5 Lead, .0375 in Pitch; RoHS: N; PinCount: 5; High-Reliability: Y; ComponentLink1Description: Manufacturer URL; ComponentLink1URL: http://www.national.com/; ComponentLink2Description: LM27 Datasheet; ComponentLink2URL: http://www.national.com/ds/LM/LM27.pdf; ComponentLink3Description: LM27 Web Page; ComponentLink3URL: http://www.national.com/pf/LM/LM27.html; ComponentLink4Description: MF05A Package Page; ComponentLink4URL: http://www.national.com/packaging/folders/mf05a.html
footprint MF05A_N (SOT23, 5-Leads, Body 2.9x1.6mm, Pitch 0.95mm, Lead Span 2.8mm, IPC Medium Density)
footprint MF05A_L (SOT23, 5-Leads, Body 2.9x1.6mm, Pitch 0.95mm, Lead Span 2.8mm, IPC High Density)
footprint MF05A_M (SOT23, 5-Leads, Body 2.9x1.6mm, Pitch 0.95mm, Lead Span 2.8mm, IPC Low Density)
pins: 1 HYST (in), 2 GND (power), 3 VTEMP (out), 4 V+ (power), 5 ~{OS}, OS/~{US}, US (out)

## LM27CIM5-2HJ
designator U?
±3°C Accurate, 120°C-150°C Factory Preset Thermostat, 5-pin SOT-23; PartNumber: LM27CIM5-2HJ; Manufacturer: National Semiconductor; PackageTopMarking: T2HJ*XTT; PowerWise: Y; CompType: OtherParts; DatasheetVersion: Sep-2006; PackageVersion: revD, Aug-2008; PackageReference: MF05A; PackageDescription: Molded SOT-23, .115 x .063 x .040 in Body, 5 Lead, .0375 in Pitch; RoHS: N; PinCount: 5; High-Reliability: Y; ComponentLink1Description: Manufacturer URL; ComponentLink1URL: http://www.national.com/; ComponentLink2Description: LM27 Datasheet; ComponentLink2URL: http://www.national.com/ds/LM/LM27.pdf; ComponentLink3Description: LM27 Web Page; ComponentLink3URL: http://www.national.com/pf/LM/LM27.html; ComponentLink4Description: MF05A Package Page; ComponentLink4URL: http://www.national.com/packaging/folders/mf05a.html
footprint MF05A_N (SOT23, 5-Leads, Body 2.9x1.6mm, Pitch 0.95mm, Lead Span 2.8mm, IPC Medium Density)
footprint MF05A_L (SOT23, 5-Leads, Body 2.9x1.6mm, Pitch 0.95mm, Lead Span 2.8mm, IPC High Density)
footprint MF05A_M (SOT23, 5-Leads, Body 2.9x1.6mm, Pitch 0.95mm, Lead Span 2.8mm, IPC Low Density)
pins: 1 HYST (in), 2 GND (power), 3 VTEMP (out), 4 V+ (power), 5 ~{OS}, OS/~{US}, US (out)

## LM27CIM5-ZHJ
designator U?
±3°C Accurate, 120°C-150°C Factory Preset Thermostat, 5-pin SOT-23; PartNumber: LM27CIM5-ZHJ; Manufacturer: National Semiconductor; PackageTopMarking: TZHJ*XTT; PowerWise: Y; CompType: OtherParts; DatasheetVersion: Sep-2006; PackageVersion: revD, Aug-2008; PackageReference: MF05A; PackageDescription: Molded SOT-23, .115 x .063 x .040 in Body, 5 Lead, .0375 in Pitch; RoHS: N; PinCount: 5; High-Reliability: Y; ComponentLink1Description: Manufacturer URL; ComponentLink1URL: http://www.national.com/; ComponentLink2Description: LM27 Datasheet; ComponentLink2URL: http://www.national.com/ds/LM/LM27.pdf; ComponentLink3Description: LM27 Web Page; ComponentLink3URL: http://www.national.com/pf/LM/LM27.html; ComponentLink4Description: MF05A Package Page; ComponentLink4URL: http://www.national.com/packaging/folders/mf05a.html
footprint MF05A_N (SOT23, 5-Leads, Body 2.9x1.6mm, Pitch 0.95mm, Lead Span 2.8mm, IPC Medium Density)
footprint MF05A_L (SOT23, 5-Leads, Body 2.9x1.6mm, Pitch 0.95mm, Lead Span 2.8mm, IPC High Density)
footprint MF05A_M (SOT23, 5-Leads, Body 2.9x1.6mm, Pitch 0.95mm, Lead Span 2.8mm, IPC Low Density)
pins: 1 HYST (in), 2 GND (power), 3 VTEMP (out), 4 V+ (power), 5 ~{OS}, OS/~{US}, US (out)

## LM56BIM
designator U?
Dual Output Low Power Thermostat, 8-pin Narrow SOIC; PartNumber: LM56BIM; Manufacturer: National Semiconductor; PackageTopMarking: NSZXTT*LM56*BIM; PowerWise: Y; CompType: OtherParts; DatasheetVersion: Aug-2009; PackageVersion: revM, May-2009; PackageReference: M08A; PackageDescription: SOIC Narrow, 4.9 x 3.9 x 1.45mm, 8 Lead, 1.27mm Pitch; RoHS: N; PinCount: 8; High-Reliability: Y; Code_JEDEC: MS-012-AA; Code_IPC: SOIC127P600-8; ComponentLink1Description: Manufacturer URL; ComponentLink1URL: http://www.national.com/; ComponentLink2Description: LM56 Datasheet; ComponentLink2URL: http://www.national.com/ds/LM/LM56.pdf; ComponentLink3Description: LM56 Web Page; ComponentLink3URL: http://www.national.com/pf/LM/LM56.html; ComponentLink4Description: M08A Package Page; ComponentLink4URL: http://www.national.com/packaging/folders/m08a.html
footprint M08A_N (SOIC, 8-Leads, Body 4.9x3.9mm, Pitch 1.27mm, IPC Medium Density)
footprint M08A_L (SOIC, 8-Leads, Body 4.9x3.9mm, Pitch 1.27mm, IPC High Density)
footprint M08A_M (SOIC, 8-Leads, Body 4.9x3.9mm, Pitch 1.27mm, IPC Low Density)
pins: 1 VREF (out), 2 VT 2 (in), 3 VT 1 (in), 4 GND (power), 5 VTEMP (out), 6 OUT 2 (oc), 7 OUT 1 (oc), 8 V+ (power)

## LM56BIM/NOPB
designator U?
Dual Output Low Power Thermostat, 8-pin Narrow SOIC, Pb-Free; PartNumber: LM56BIM/NOPB; Manufacturer: National Semiconductor; PackageTopMarking: NSZXTT*LM56*BIM; PowerWise: Y; CompType: OtherParts; DatasheetVersion: Aug-2009; PackageVersion: revM, May-2009; PackageReference: M08A; PackageDescription: SOIC Narrow, 4.9 x 3.9 x 1.45mm, 8 Lead, 1.27mm Pitch; RoHS: Y; PinCount: 8; High-Reliability: Y; Code_JEDEC: MS-012-AA; Code_IPC: SOIC127P600-8; ComponentLink1Description: Manufacturer URL; ComponentLink1URL: http://www.national.com/; ComponentLink2Description: LM56 Datasheet; ComponentLink2URL: http://www.national.com/ds/LM/LM56.pdf; ComponentLink3Description: LM56 Web Page; ComponentLink3URL: http://www.national.com/pf/LM/LM56.html; ComponentLink4Description: M08A Package Page; ComponentLink4URL: http://www.national.com/packaging/folders/m08a.html
footprint M08A_N (SOIC, 8-Leads, Body 4.9x3.9mm, Pitch 1.27mm, IPC Medium Density)
footprint M08A_L (SOIC, 8-Leads, Body 4.9x3.9mm, Pitch 1.27mm, IPC High Density)
footprint M08A_M (SOIC, 8-Leads, Body 4.9x3.9mm, Pitch 1.27mm, IPC Low Density)
pins: 1 VREF (out), 2 VT 2 (in), 3 VT 1 (in), 4 GND (power), 5 VTEMP (out), 6 OUT 2 (oc), 7 OUT 1 (oc), 8 V+ (power)

## LM56BIMM
designator U?
Dual Output Low Power Thermostat, 8-pin Mini SOIC; PartNumber: LM56BIMM; Manufacturer: National Semiconductor; PackageTopMarking: ZXTT*T02B; PowerWise: Y; CompType: OtherParts; DatasheetVersion: Aug-2009; PackageVersion: revF, Apr-2008; PackageReference: MUA08A; PackageDescription: MINI SOIC, .118 x .118 x .034in, 8 Lead, .0256in Pitch; RoHS: N; PinCount: 8; High-Reliability: Y; Code_JEDEC: MO-187-AA; ComponentLink1Description: Manufacturer URL; ComponentLink1URL: http://www.national.com/; ComponentLink2Description: LM56 Datasheet; ComponentLink2URL: http://www.national.com/ds/LM/LM56.pdf; ComponentLink3Description: LM56 Web Page; ComponentLink3URL: http://www.national.com/pf/LM/LM56.html; ComponentLink4Description: MUA08A Package Page; ComponentLink4URL: http://www.national.com/packaging/folders/mua08a.html
footprint MUA08A_N (TSOP, 8-Leads, Body 3x3mm, Pitch 0.65mm, IPC Medium Density)
footprint MUA08A_L (TSOP, 8-Leads, Body 3x3mm, Pitch 0.65mm, IPC High Density)
footprint MUA08A_M (TSOP, 8-Leads, Body 3x3mm, Pitch 0.65mm, IPC Low Density)
pins: 1 VREF (out), 2 VT 2 (in), 3 VT 1 (in), 4 GND (power), 5 VTEMP (out), 6 OUT 2 (oc), 7 OUT 1 (oc), 8 V+ (power)

## LM56BIMM/NOPB
designator U?
Dual Output Low Power Thermostat, 8-pin Mini SOIC, Pb-Free; PartNumber: LM56BIMM/NOPB; Manufacturer: National Semiconductor; PackageTopMarking: ZXTT*T02B; PowerWise: Y; CompType: OtherParts; DatasheetVersion: Aug-2009; PackageVersion: revF, Apr-2008; PackageReference: MUA08A; PackageDescription: MINI SOIC, .118 x .118 x .034in, 8 Lead, .0256in Pitch; RoHS: Y; PinCount: 8; High-Reliability: Y; Code_JEDEC: MO-187-AA; ComponentLink1Description: Manufacturer URL; ComponentLink1URL: http://www.national.com/; ComponentLink2Description: LM56 Datasheet; ComponentLink2URL: http://www.national.com/ds/LM/LM56.pdf; ComponentLink3Description: LM56 Web Page; ComponentLink3URL: http://www.national.com/pf/LM/LM56.html; ComponentLink4Description: MUA08A Package Page; ComponentLink4URL: http://www.national.com/packaging/folders/mua08a.html
footprint MUA08A_N (TSOP, 8-Leads, Body 3x3mm, Pitch 0.65mm, IPC Medium Density)
footprint MUA08A_L (TSOP, 8-Leads, Body 3x3mm, Pitch 0.65mm, IPC High Density)
footprint MUA08A_M (TSOP, 8-Leads, Body 3x3mm, Pitch 0.65mm, IPC Low Density)
pins: 1 VREF (out), 2 VT 2 (in), 3 VT 1 (in), 4 GND (power), 5 VTEMP (out), 6 OUT 2 (oc), 7 OUT 1 (oc), 8 V+ (power)

## LM56BIMMX
designator U?
Dual Output Low Power Thermostat, 8-pin Mini SOIC; PartNumber: LM56BIMMX; Manufacturer: National Semiconductor; PackageTopMarking: ZXTT*T02B; PowerWise: Y; CompType: OtherParts; DatasheetVersion: Aug-2009; PackageVersion: revF, Apr-2008; PackageReference: MUA08A; PackageDescription: MINI SOIC, .118 x .118 x .034in, 8 Lead, .0256in Pitch; RoHS: N; PinCount: 8; High-Reliability: Y; Code_JEDEC: MO-187-AA; ComponentLink1Description: Manufacturer URL; ComponentLink1URL: http://www.national.com/; ComponentLink2Description: LM56 Datasheet; ComponentLink2URL: http://www.national.com/ds/LM/LM56.pdf; ComponentLink3Description: LM56 Web Page; ComponentLink3URL: http://www.national.com/pf/LM/LM56.html; ComponentLink4Description: MUA08A Package Page; ComponentLink4URL: http://www.national.com/packaging/folders/mua08a.html
footprint MUA08A_N (TSOP, 8-Leads, Body 3x3mm, Pitch 0.65mm, IPC Medium Density)
footprint MUA08A_L (TSOP, 8-Leads, Body 3x3mm, Pitch 0.65mm, IPC High Density)
footprint MUA08A_M (TSOP, 8-Leads, Body 3x3mm, Pitch 0.65mm, IPC Low Density)
pins: 1 VREF (out), 2 VT 2 (in), 3 VT 1 (in), 4 GND (power), 5 VTEMP (out), 6 OUT 2 (oc), 7 OUT 1 (oc), 8 V+ (power)

## LM56BIMX
designator U?
Dual Output Low Power Thermostat, 8-pin Narrow SOIC; PartNumber: LM56BIMX; Manufacturer: National Semiconductor; PackageTopMarking: NSZXTT*LM56*BIM; PowerWise: Y; CompType: OtherParts; DatasheetVersion: Aug-2009; PackageVersion: revM, May-2009; PackageReference: M08A; PackageDescription: SOIC Narrow, 4.9 x 3.9 x 1.45mm, 8 Lead, 1.27mm Pitch; RoHS: N; PinCount: 8; High-Reliability: Y; Code_JEDEC: MS-012-AA; Code_IPC: SOIC127P600-8; ComponentLink1Description: Manufacturer URL; ComponentLink1URL: http://www.national.com/; ComponentLink2Description: LM56 Datasheet; ComponentLink2URL: http://www.national.com/ds/LM/LM56.pdf; ComponentLink3Description: LM56 Web Page; ComponentLink3URL: http://www.national.com/pf/LM/LM56.html; ComponentLink4Description: M08A Package Page; ComponentLink4URL: http://www.national.com/packaging/folders/m08a.html
footprint M08A_N (SOIC, 8-Leads, Body 4.9x3.9mm, Pitch 1.27mm, IPC Medium Density)
footprint M08A_L (SOIC, 8-Leads, Body 4.9x3.9mm, Pitch 1.27mm, IPC High Density)
footprint M08A_M (SOIC, 8-Leads, Body 4.9x3.9mm, Pitch 1.27mm, IPC Low Density)
pins: 1 VREF (out), 2 VT 2 (in), 3 VT 1 (in), 4 GND (power), 5 VTEMP (out), 6 OUT 2 (oc), 7 OUT 1 (oc), 8 V+ (power)

## LM56CIM
designator U?
Dual Output Low Power Thermostat, 8-pin Narrow SOIC; PartNumber: LM56CIM; Manufacturer: National Semiconductor; PackageTopMarking: NSZXTT*LM56*CIM; PowerWise: Y; CompType: OtherParts; DatasheetVersion: Aug-2009; PackageVersion: revM, May-2009; PackageReference: M08A; PackageDescription: SOIC Narrow, 4.9 x 3.9 x 1.45mm, 8 Lead, 1.27mm Pitch; RoHS: N; PinCount: 8; High-Reliability: Y; Code_JEDEC: MS-012-AA; Code_IPC: SOIC127P600-8; ComponentLink1Description: Manufacturer URL; ComponentLink1URL: http://www.national.com/; ComponentLink2Description: LM56 Datasheet; ComponentLink2URL: http://www.national.com/ds/LM/LM56.pdf; ComponentLink3Description: LM56 Web Page; ComponentLink3URL: http://www.national.com/pf/LM/LM56.html; ComponentLink4Description: M08A Package Page; ComponentLink4URL: http://www.national.com/packaging/folders/m08a.html
footprint M08A_N (SOIC, 8-Leads, Body 4.9x3.9mm, Pitch 1.27mm, IPC Medium Density)
footprint M08A_L (SOIC, 8-Leads, Body 4.9x3.9mm, Pitch 1.27mm, IPC High Density)
footprint M08A_M (SOIC, 8-Leads, Body 4.9x3.9mm, Pitch 1.27mm, IPC Low Density)
pins: 1 VREF (out), 2 VT 2 (in), 3 VT 1 (in), 4 GND (power), 5 VTEMP (out), 6 OUT 2 (oc), 7 OUT 1 (oc), 8 V+ (power)

## LM56CIM/NOPB
designator U?
Dual Output Low Power Thermostat, 8-pin Narrow SOIC, Pb-Free; PartNumber: LM56CIM/NOPB; Manufacturer: National Semiconductor; PackageTopMarking: NSZXTT*LM56*CIM; PowerWise: Y; CompType: OtherParts; DatasheetVersion: Aug-2009; PackageVersion: revM, May-2009; PackageReference: M08A; PackageDescription: SOIC Narrow, 4.9 x 3.9 x 1.45mm, 8 Lead, 1.27mm Pitch; RoHS: Y; PinCount: 8; High-Reliability: Y; Code_JEDEC: MS-012-AA; Code_IPC: SOIC127P600-8; ComponentLink1Description: Manufacturer URL; ComponentLink1URL: http://www.national.com/; ComponentLink2Description: LM56 Datasheet; ComponentLink2URL: http://www.national.com/ds/LM/LM56.pdf; ComponentLink3Description: LM56 Web Page; ComponentLink3URL: http://www.national.com/pf/LM/LM56.html; ComponentLink4Description: M08A Package Page; ComponentLink4URL: http://www.national.com/packaging/folders/m08a.html
footprint M08A_N (SOIC, 8-Leads, Body 4.9x3.9mm, Pitch 1.27mm, IPC Medium Density)
footprint M08A_L (SOIC, 8-Leads, Body 4.9x3.9mm, Pitch 1.27mm, IPC High Density)
footprint M08A_M (SOIC, 8-Leads, Body 4.9x3.9mm, Pitch 1.27mm, IPC Low Density)
pins: 1 VREF (out), 2 VT 2 (in), 3 VT 1 (in), 4 GND (power), 5 VTEMP (out), 6 OUT 2 (oc), 7 OUT 1 (oc), 8 V+ (power)